# Altium integrated library 511MLFT.IntLib: 2 symbols
Pins are listed as number, name and electrical type; pins without a type are passive.

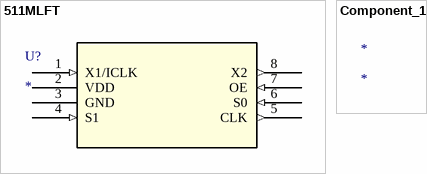
[diagram p0: symbols 511MLFT to Component_1]

## 511MLFT
designator U?
No Description Available; Mfr_Name: Renesas Electronics; RefDes: RefDes; Type: Type
footprint SOIC8_150MIL_REN
pins: 1 X1/ICLK (in), 2 VDD (power), 3 GND (power), 4 S1 (in), 5 CLK (out), 6 S0 (in), 7 OE (in), 8 X2 (out)

## Component_1
designator *